# Altium schematic symbol library SAW8_3_7.Schlib: 1 symbol
Pins are listed as number, name and electrical type; pins without a type are passive.

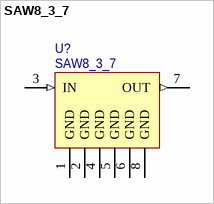
[diagram p0: symbol SAW8_3_7]

## SAW8_3_7
designator U?
pins: 1 GND (power), 2 GND (power), 3 IN (in), 4 GND (power), 5 GND (power), 6 GND (power), 7 OUT (out), 8 GND (power)